# Altium footprint library Batteries.PcbLib: 1 footprints
Each footprint in its own frame and in the unit in brackets; x right, y up, seen from the top. Pads: shape width x height; smd on the part's side, far side on the other; paste and mask are expansions set on the pad; w line width, h text height; cw(c..) or ccw(c..) is an arc to the next point about the centre after c.
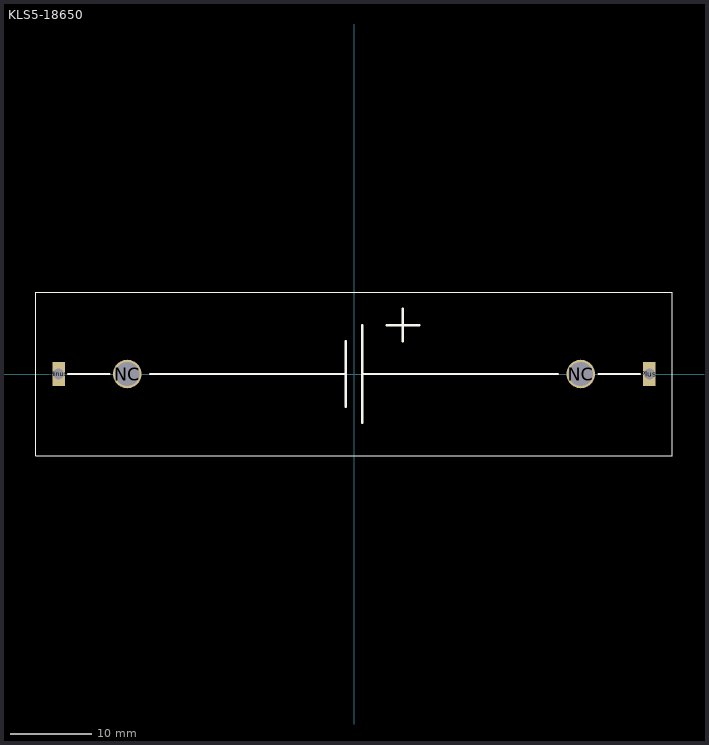
[diagram p0: the footprint, top view; thin cyan lines are the x and y axes]

## KLS5-18650 [mm]
pads (4):
  rect 1.5x3 hole 1.34 square: Minus(-36.2,0) Plus(36.2,0)
  round 3.5 hole 3: NC(-27.8,0) NC(27.8,0)
Top Overlay:
  lines w0.15: -39,-10 -39,10 39,10 39,-10 -39,-10
  lines w0.3: -35,0 -30,0 ; -25,0 -1,0 ; -1,-4 -1,4 ; 1,-6 1,6 ; 1,0 25,0 ; 4,6 8,6 ; 6,4 6,8 ; 30,0 35,0
3D body "Hold_18650-1p.stp": height 21.5, standoff -3.99, extent -39,-10 39,10